# EAGLE library part ESP8266 (library Bat-Components)
ESP8266 Wifi chip
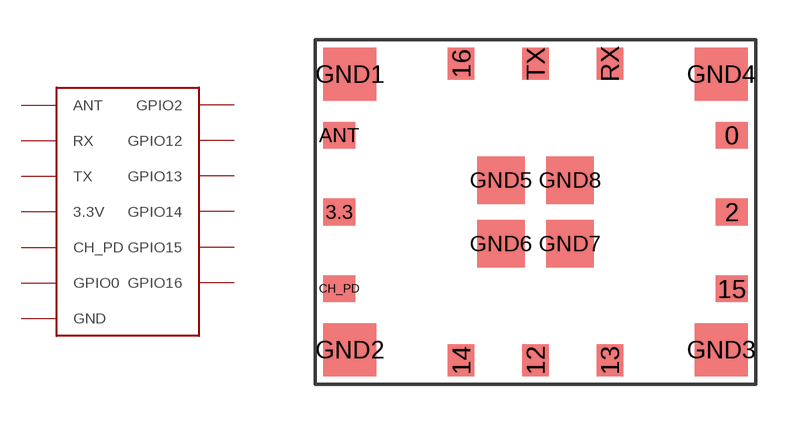
[diagram p5: symbol with the pads of ESP-06; footprint ESP-06]

Designator prefix -

## ESP8266  [ESP-06]
0  GPIO0
2  GPIO2
3.3  3.3V
12  GPIO12
13  GPIO13
14  GPIO14
15  GPIO15
16  GPIO16
ANT  ANT
CH_PD  CH_PD
GND1  GND
GND2  GND
GND3  GND
GND4  GND
GND5  GND
GND6  GND
GND7  GND
GND8  GND
RX  RX
TX  TX

## Footprint ESP-06 (pad centres in mm)
ESP-06 footprint SMD
smd 1.2 x 1: 0 7.4,2.9; 2 7.4,0; 3.3 -7.4,0; 15 7.4,-2.9; ANT -7.4,2.9; CH_PD -7.4,-2.9
smd 1 x 1.2: 12 0,-5.6; 13 2.8,-5.6; 14 -2.8,-5.6; 16 -2.8,5.6; RX 2.8,5.6; TX 0,5.6
smd 2 x 2: GND1 -7,5.2; GND2 -7,-5.2; GND3 7,-5.2; GND4 7,5.2
smd 1.8 x 1.8: GND5 -1.3,1.2; GND6 -1.3,-1.2; GND7 1.3,-1.2; GND8 1.3,1.2